# EAGLE library part MCP73871T (library radios)
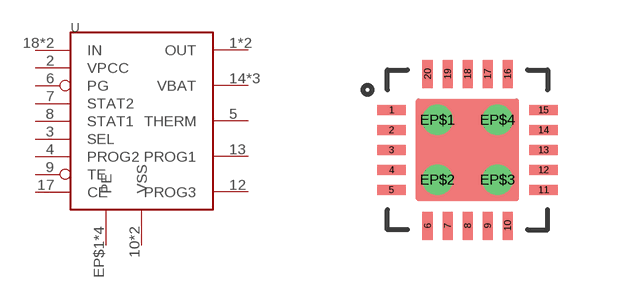
[diagram p2: symbol with the pads of QFN-20; footprint QFN-20]

Designator prefix -

## MCP73871T  [QFN-20]
1  OUT  pwr
2  VPCC
3  SEL
4  PROG2  in
5  THERM
6  PG  out
7  STAT2  out
8  STAT1  out
9  TE  in
10  VSS  pwr
11  VSS  pwr
12  PROG3
13  PROG1
14  VBAT
15  VBAT
16  VBAT
17  CE  in
18  IN  pwr
19  IN  pwr
20  OUT  pwr
EP$1  PE
EP$2  PE
EP$3  PE
EP$4  PE

## Footprint QFN-20 (pad centres in mm)
smd 0.7 x 0.25: 1 -1.9,1; 2 -1.9,0.5; 3 -1.9,0; 4 -1.9,-0.5; 5 -1.9,-1; 11 1.9,-1; 12 1.9,-0.5; 13 1.9,0; 14 1.9,0.5; 15 1.9,1
smd 0.25 x 0.7: 6 -1,-1.9; 7 -0.5,-1.9; 8 0,-1.9; 9 0.5,-1.9; 10 1,-1.9; 16 1,1.9; 17 0.5,1.9; 18 0,1.9; 19 -0.5,1.9; 20 -1,1.9
drill 0.254 pad 0.381: EP$1 -0.75,0.75; EP$2 -0.75,-0.75; EP$3 0.75,-0.75; EP$4 0.75,0.75